# EAGLE library part 1939870-1 (library A118090TR-ND)
SD CARD CONNECTOR EMBOSS ASSY
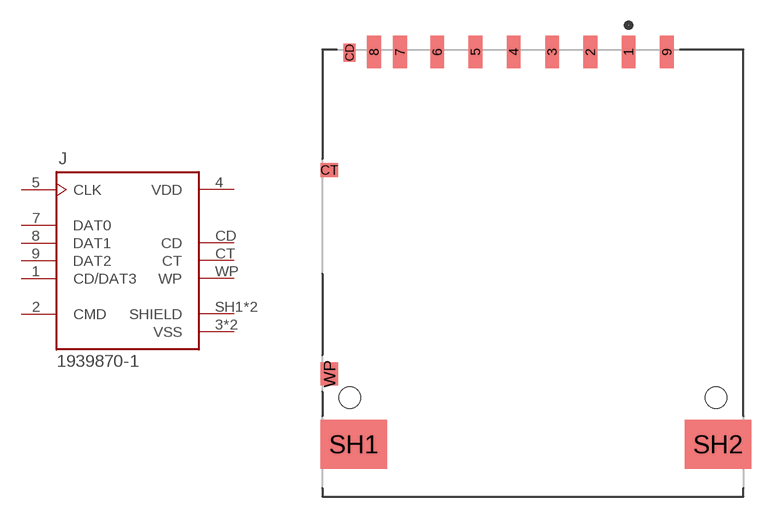
[diagram p0: symbol with the pads of TE_1939870-1; footprint TE_1939870-1]

Designator prefix J

## 1939870-1 (Centerline_Pitch: 1.7 mm[.06 in]; Comment: 1939870-1; Description: Conn SD Card PIN 9 POS 1.7mm Solder RA SMD 0.5A/Contact T/R; Digi-Key_Part_Number: A118090CT-ND; Digi-Key_Purchase_URL: https://www.digikey.com/product-detail/en/te-connectivity-amp-connectors/1939870-1/A118090CT-ND/4729818?utm_source=snapeda&utm_medium=aggregator&utm_campaign=symbol; MF: TE Connectivity; MP: 1939870-1; Number_of_Positions: 9; Package: None; Product_Type: Removable Memory Products; TE_purchase_URL: https://www.te.com/usa-en/product-1939870-1.html?te_bu=Cor&te_type=disp&te_campaign=seda_glo_cor-seda-global-disp-prtnr-fy19-seda-model-bom-cta_sma-317_1&elqCampaignId=32493)  [TE_1939870-1]
1  CD/DAT3
2  CMD  pas
3  VSS  pwr
4  VDD  pwr
5  CLK  in
6  VSS  pwr
7  DAT0
8  DAT1
9  DAT2
CD  CD  pas
CT  CT  pas
SH1  SHIELD  pas
SH2  SHIELD  pas
WP  WP  pas

## Footprint TE_1939870-1 (pad centres in mm)
smd 0.9 x 2.1: 1 6.255,22.6; 2 3.755,22.6; 3 1.255,22.6; 4 -1.245,22.6; 5 -3.745,22.6; 6 -6.245,22.6; 7 -8.67,22.6; 8 -10.37,22.6; 9 8.755,22.6
smd 0.8 x 1.2: CD -11.97,22.55
smd 1.13 x 0.9: CT -13.285,14.88
smd 4.32 x 3.2: SH1 -11.69,-3.05; SH2 12.09,-3.05
smd 1.13 x 1.5: WP -13.285,1.57
hole 1.4 at -11.97,0
hole 1.4 at 11.97,0